# Altium footprint library FET.PcbLib: 7 footprints
Each footprint in its own frame and in the unit in brackets; x right, y up, seen from the top. Pads: shape width x height; smd on the part's side, far side on the other; paste and mask are expansions set on the pad; w line width, h text height; cw(c..) or ccw(c..) is an arc to the next point about the centre after c.
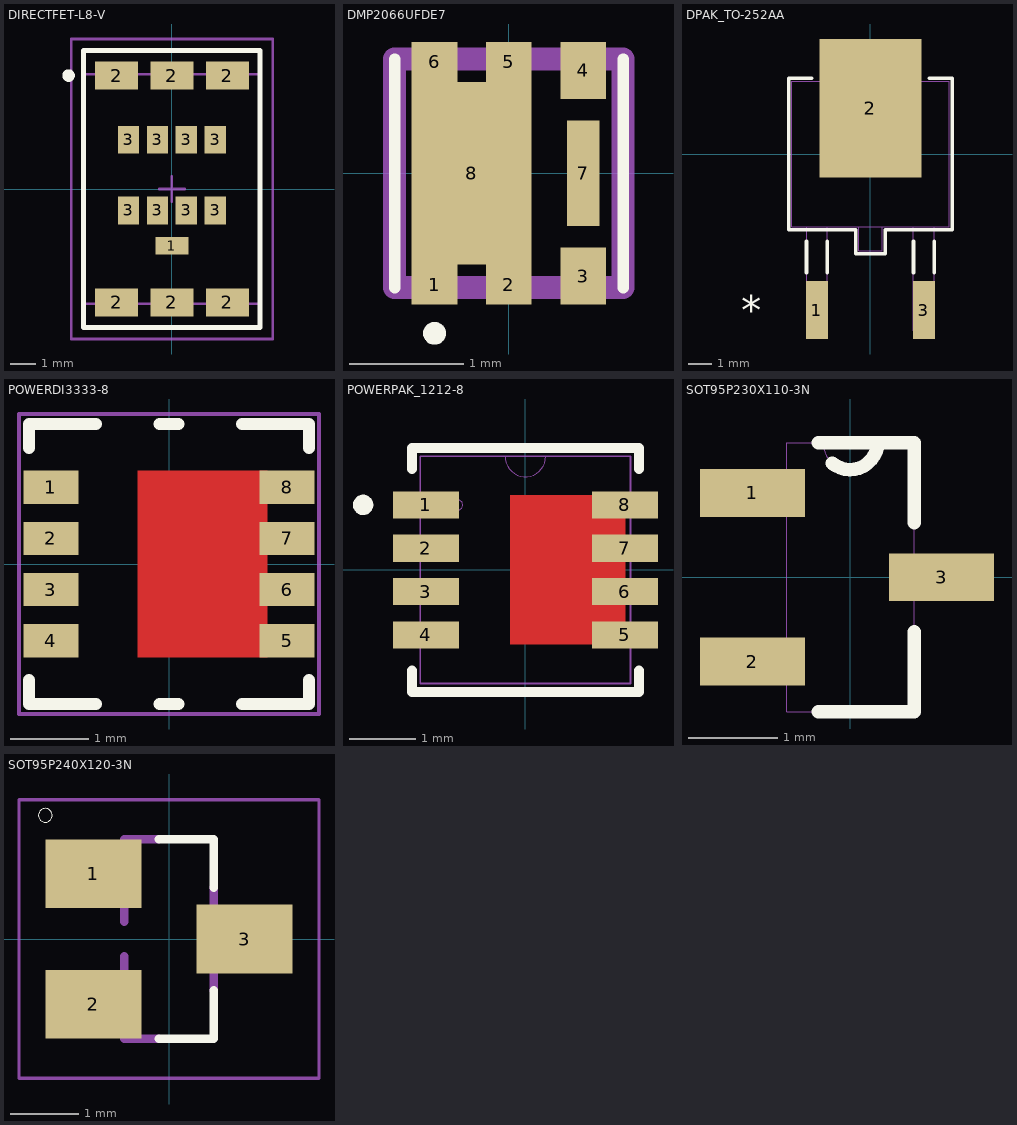
[diagram p0: the footprints below, top view; thin cyan lines are the x and y axes]

## DIRECTFET-L8-V [mm]
pads (15):
  rect 1.3x0.7 smd paste-2539.97: 1(0,-2.25)
  rect 1.7x1.1 smd: 2(-2.2,-4.5) 2(-2.2,4.5) 2(0,-4.5) 2(0,4.5) 2(2.2,-4.5) 2(2.2,4.5)
  rect 0.85x1.1 smd paste-2539.97: 3(-1.725,-0.85) 3(-1.725,1.95) 3(-0.575,-0.85) 3(-0.575,1.95) 3(0.575,-0.85) 3(0.575,1.95) 3(1.725,-0.85) 3(1.725,1.95)
Top Overlay:
  circle w0.25: c-4.1,4.5 r0.125
  lines w0.2: -3.5,-5.5 -3.5,5.5 3.5,5.5 3.5,-5.5 -3.5,-5.5
Top Paste:
  region: -0.925,1.45 -0.225,1.45 -0.225,2.45 -0.925,2.45
  region: 1.375,1.45 2.075,1.45 2.075,2.45 1.375,2.45
  region: 0.225,1.45 0.925,1.45 0.925,2.45 0.225,2.45
  region: -2.075,1.45 -1.375,1.45 -1.375,2.45 -2.075,2.45
  region: 1.375,-1.35 2.075,-1.35 2.075,-0.35 1.375,-0.35
  region: 0.225,-1.35 0.925,-1.35 0.925,-0.35 0.225,-0.35
  region: -0.925,-1.35 -0.225,-1.35 -0.225,-0.35 -0.925,-0.35
  region: -2.075,-1.35 -1.375,-1.35 -1.375,-0.35 -2.075,-0.35
  region: 0.55,-2.562 0.55,-1.937 -0.55,-1.937 -0.55,-2.562
Top 3D Body:
  lines w0.1: -3.487,-4.55 3.487,-4.55 3.487,4.55 -3.487,4.55 -3.487,-4.55
Top Assembly (Mech15):
  lines w0.1: -3.99,-5.95 -3.99,5.95 ; -3.99,-5.95 -3.99,5.95 ; -3.99,-5.95 3.99,-5.95 ; -3.99,-5.95 3.99,-5.95 ; -3.99,5.95 3.99,5.95 ; -3.99,5.95 3.99,5.95 ; 3.99,-5.95 3.99,5.95 ; 3.99,-5.95 3.99,5.95
Top Component Center:
  lines w0.1: -0.5,0 0.5,0 ; 0,-0.5 0,0.5
3D body "WDSON-2-X4.stp": height 0.75, standoff 0, extent -3.488,-4.55 3.487,4.55

## DMP2066UFDE7 [mm]
pads (8):
  rect 0.4x0.35 smd: 1(-0.65,-0.975) 2(0,-0.975) 5(0,0.975) 6(-0.65,0.975)
  rect 0.4x0.5 smd: 3(0.65,-0.9) 4(0.65,0.9)
  rect 0.285x0.92 smd: 7(0.65,0)
  rect 1.05x1.6 smd: 8(-0.325,0)
Top Overlay:
  lines w0.1: -1,-1 -1,1 ; 1,-1 1,1 ; -0.7,-1.4 cw(c-0.65,-1.4) -0.6,-1.4 cw(c-0.65,-1.4) -0.7,-1.4
Mechanical 13:
  lines w0.2: -1,-1 1,-1 1,1 -1,1 -1,-1

## DPAK_TO-252AA [mil]
pads (3):
  rect 36.97x97.56 smd paste+0 mask+0: 1(-90,-262.5) 3(90,-262.5)
  rect 172x233 smd paste+0 mask+0: 2(0,77)
Top Overlay:
  lines w6: -107.5,-199.72 -107.5,-146.5 ; -99.1,127.5 -137.5,127.5 -137.5,-127.5 -25,-127.5 -25,-167.5 25,-167.5 25,-127.5 137.5,-127.5 137.5,127.5 99.1,127.5 ; -72.5,-199.72 -72.5,-146.5 ; 72.5,-199.72 72.5,-146.5 ; 107.5,-199.72 107.5,-146.5
  text "*" at -217.5,-287.5 h50
Mechanical 13:
  lines w1: -132.5,-122.5 -132.5,122.5 132.5,122.5 132.5,-122.5 -132.5,-122.5 ; -107.5,-297.5 -72.5,-297.5 -72.5,-122.5 -107.5,-122.5 -107.5,-297.5 ; -20,-162.5 20,-162.5 20,-122.5 -20,-122.5 -20,-162.5 ; 72.5,-297.5 107.5,-297.5 107.5,-122.5 72.5,-122.5 72.5,-297.5
  text "*" at -102.5,-137.5 h50
3D body "DPAK_TO-252AA.step": height 94.09, standoff -2.01, extent -132.52,-297.52 132.52,172.52

## POWERDI3333-8 [mm]
pads (8):
  rect 0.7x0.42 smd paste+0 mask+0: 1(-1.5,0.975) 2(-1.5,0.325) 3(-1.5,-0.325) 4(-1.5,-0.975) 5(1.5,-0.975) 6(1.5,-0.325) 7(1.5,0.325) 8(1.5,0.975)
Top Layer:
  region: 1.25,1.185 1.25,-1.185 -0.4,-1.185 -0.4,1.185
Top Overlay:
  lines w0.152: -1.778,-1.473 -1.778,-1.778 -0.925,-1.778 ; -1.778,1.473 -1.778,1.778 -0.925,1.778 ; -0.118,-1.778 0.118,-1.778 ; -0.118,1.778 0.118,1.778 ; 0.925,-1.778 1.778,-1.778 1.778,-1.473 ; 0.925,1.778 1.778,1.778 1.778,1.473
Top Paste:
  region: 1.25,1.185 1.25,-1.185 -0.4,-1.185 -0.4,1.185
Top Solder:
  region: 1.25,1.185 1.25,-1.185 -0.4,-1.185 -0.4,1.185
Top Assembly (Mech15):
  lines w0.05: -1.905,-1.905 1.905,-1.905 1.905,-1.351 1.905,1.351 1.905,1.905 -1.905,1.905 -1.905,1.351 -1.905,-1.351 -1.905,-1.905
  lines w0.1: -0.254,0 0.254,0 ; 0,-0.254 0,0.254
3D body "PowerPAK 1212-8.STEP": height 1.06, standoff 0, extent -1.85,-1.65 1.85,1.65

## POWERPAK_1212-8 [mil]
pads (8):
  rect 39x16 smd paste-19: 1(-58.75,38.39) 2(-58.75,12.8) 3(-58.75,-12.8) 4(-58.75,-38.39) 5(58.75,-38.39) 6(58.75,-12.8) 7(58.75,12.8) 8(58.75,38.39)
Top Layer:
  region: 59,-44 59,44 -9,44 -9,-44
Top Overlay:
  circle w6: c-95.8,38.39 r3
  lines w6: -67,-59.49 -67,-72 67,-72 67,-59.49 ; -67,59.49 -67,72 67,72 67,59.49
Top Paste:
  region: 58.75,42.5 -5,42.5 -5,-42.5 58.75,-42.5
  region: 78.25,46.39 39.25,46.39 39.25,30.39 78.25,30.39
  region: 78.25,20.8 39.25,20.8 39.25,4.8 78.25,4.8
  region: 78.25,-4.8 39.25,-4.8 39.25,-20.8 78.25,-20.8
  region: 78.25,-30.39 39.25,-30.39 39.25,-46.39 78.25,-46.39
  region: -39.25,-30.39 -78.25,-30.39 -78.25,-46.39 -39.25,-46.39
  region: -39.25,-4.8 -78.25,-4.8 -78.25,-20.8 -39.25,-20.8
  region: -39.25,20.8 -78.25,20.8 -78.25,4.8 -39.25,4.8
  region: -39.25,46.39 -78.25,46.39 -78.25,30.39 -39.25,30.39
Top Solder:
  region: 59,-44 59,44 -9,44 -9,-44
Mechanical 13:
  circle w0: c-40,38.39 r3
  lines w0: -12,67 ccw(c0,67) 12,67
  lines w1: -62,-67 -62,67 62,67 62,-67 -62,-67
3D body "PowerPAK 1212-8.STEP": height 41.73, standoff 0, extent -72.84,-64.96 72.83,64.96

## SOT95P230X110-3N [mil]
pads (3):
  rect 46x21 smd: 1(-43,37) 2(-43,-37) 3(40,0)
Top Overlay:
  lines w6: -14,-59 28,-59 28,-24 ; -14,59 12,59 28,59 28,24 ; -8.04,50.03 ccw(c-0.19,59.38) 12,58.95
Mechanical 13:
  lines w0: -28,-47 -49,-47 -49,-28 -28,-28 ; -28,-47 -28,-28 ; -28,-47 -28,-59 28,-59 28,-9 ; -28,-28 -28,28 ; -28,28 -49,28 -49,47 -28,47 ; -28,28 -28,47 ; -28,47 -28,59 -12,59 ; -12,59 ccw(c0,59) 12,59 ; -12,59 12,59 ; 12,59 28,59 28,9 ; 28,-9 49,-9 49,9 28,9 ; 28,-9 28,9
3D body "TO-236_SOT23_NEX.step": height 43.11, standoff 0, extent -49.02,-59.02 49.02,59.02

## SOT95P240X120-3N [mm]
pads (3):
  rect 1.4x1 smd: 1(-1.1,0.95) 2(-1.1,-0.95) 3(1.1,0)
Top Overlay:
  circle w0: c-1.8,1.8 r0.1
  lines w0.127: -0.15,-1.45 0.65,-1.45 0.65,-0.75 ; -0.15,1.45 0.65,1.45 0.65,0.75
Mechanical 13:
  region: -0.712,0.711 -1.296,0.711 -1.296,1.169 -0.712,1.169
  region: -0.711,-1.17 -1.297,-1.17 -1.297,-0.711 -0.711,-0.711
  region: 1.296,-0.228 0.711,-0.228 0.711,0.228 1.296,0.228
  lines w0.127: -0.65,-0.25 -0.65,-1.45 -0.15,-1.45 ; -0.65,0.25 -0.65,1.45 -0.15,1.45 ; 0.65,-0.75 0.65,0.75
Top Assembly (Mech15):
  lines w0.051: -2.183,-2.023 2.183,-2.023 2.183,2.023 -2.183,2.023 -2.183,-2.023
3D body "FDN340P.STEP": height 1.12, standoff 0, extent -1.255,-1.46 1.255,1.46